# EAGLE library part CHAR (library charger)
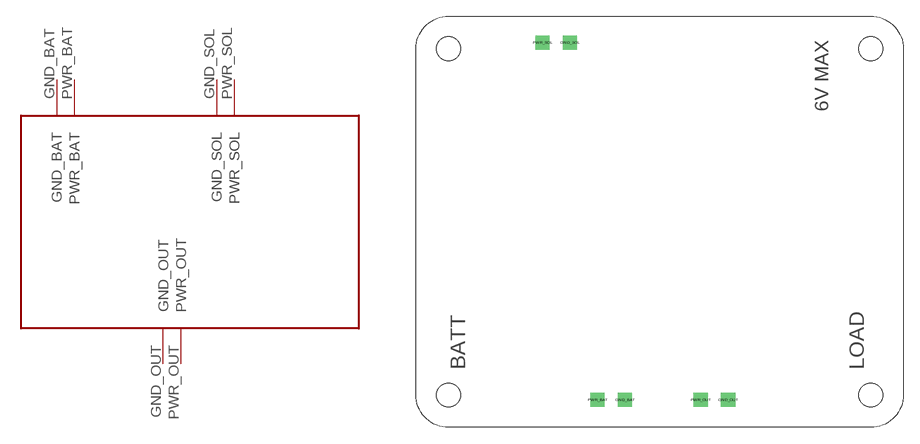
[diagram p0: symbol with the pads of CHAR; footprint CHAR]

Designator prefix -

## CHAR  [CHAR]
GND_BAT  GND_BAT
GND_OUT  GND_OUT
GND_SOL  GND_SOL
PWR_BAT  PWR_BAT
PWR_OUT  PWR_OUT
PWR_SOL  PWR_SOL

## Footprint CHAR (pad centres in mm)
drill 0.8 square: GND_BAT -7.62,-8.89; GND_OUT 1.905,-8.89; GND_SOL -12.7,24.13; PWR_BAT -10.16,-8.89; PWR_OUT -0.635,-8.89; PWR_SOL -15.24,24.13
hole 2.2 at -23.924,23.57
hole 2.2 at -23.924,-8.43
hole 2.2 at 15.076,-8.43
hole 2.2 at 15.076,23.57